# EAGLE library part ST-LSM303DLH (library FaBo-Sensor)
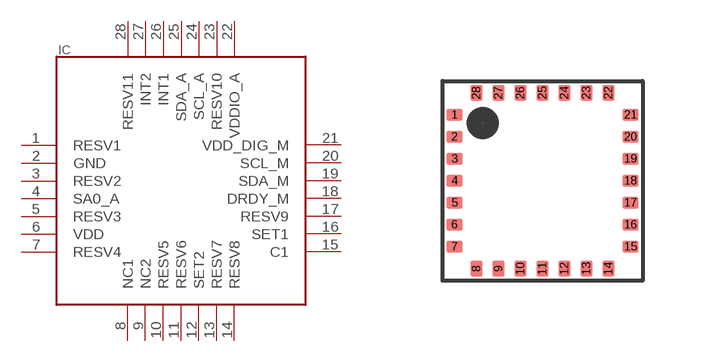
[diagram p7: symbol with the pads of ST-LSM303DLH; footprint ST-LSM303DLH]

Designator prefix IC

## ST-LSM303DLH  [ST-LSM303DLH]
1  RESV1
2  GND
3  RESV2
4  SA0_A
5  RESV3
6  VDD
7  RESV4
8  NC1
9  NC2
10  RESV5
11  RESV6
12  SET2
13  RESV7
14  RESV8
15  C1
16  SET1
17  RESV9
18  DRDY_M
19  SDA_M
20  SCL_M
21  VDD_DIG_M
22  VDDIO_A
23  RESV10
24  SCL_A
25  SDA_A
26  INT1
27  INT2
28  RESV11

## Footprint ST-LSM303DLH (pad centres in mm)
smd 0.4 x 0.3: 1 -2.2,1.65; 2 -2.2,1.1; 3 -2.2,0.55; 4 -2.2,0; 5 -2.2,-0.55; 6 -2.2,-1.1; 7 -2.2,-1.65; 15 2.2,-1.65; 16 2.2,-1.1; 17 2.2,-0.55; 18 2.2,0; 19 2.2,0.55; 20 2.2,1.1; 21 2.2,1.65
smd 0.3 x 0.4: 8 -1.65,-2.2; 9 -1.1,-2.2; 10 -0.55,-2.2; 11 0,-2.2; 12 0.55,-2.2; 13 1.1,-2.2; 14 1.65,-2.2; 22 1.65,2.2; 23 1.1,2.2; 24 0.55,2.2; 25 0,2.2; 26 -0.55,2.2; 27 -1.1,2.2; 28 -1.65,2.2